# EAGLE library part CONNECTOR_PI_40_PIN (library APU_ENGR480_UPS_EAGLE_Library)
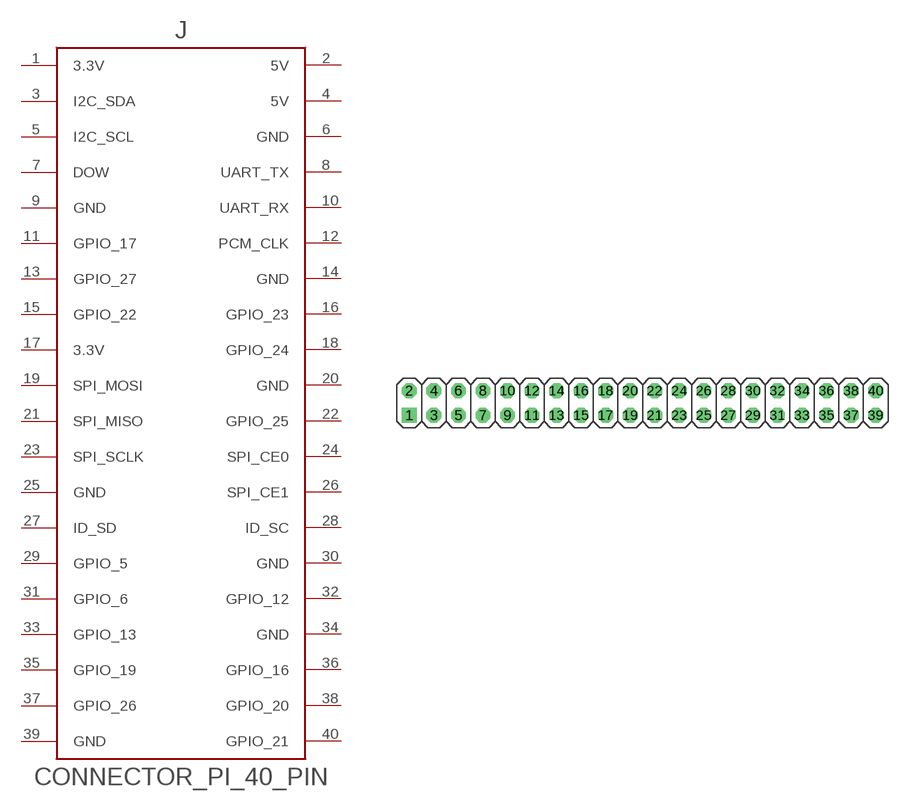
[diagram p3: symbol with the pads of 2X20; footprint 2X20]

Designator prefix J

## CONNECTOR_PI_40_PIN  [2X20]
1  3.3V
2  5V
3  I2C_SDA
4  5V
5  I2C_SCL
6  GND
7  DOW
8  UART_TX
9  GND
10  UART_RX
11  GPIO_17
12  PCM_CLK
13  GPIO_27
14  GND
15  GPIO_22
16  GPIO_23
17  3.3V
18  GPIO_24
19  SPI_MOSI
20  GND
21  SPI_MISO
22  GPIO_25
23  SPI_SCLK
24  SPI_CE0
25  GND
26  SPI_CE1
27  ID_SD
28  ID_SC
29  GPIO_5
30  GND
31  GPIO_6
32  GPIO_12
33  GPIO_13
34  GND
35  GPIO_19
36  GPIO_16
37  GPIO_26
38  GPIO_20
39  GND
40  GPIO_21

## Footprint 2X20 (pad centres in mm)
PIN HEADER
drill 1.016 square: 1 -24.13,-1.27
drill 1.016 octagon: 2 -24.13,1.27; 3 -21.59,-1.27; 4 -21.59,1.27; 5 -19.05,-1.27; 6 -19.05,1.27; 7 -16.51,-1.27; 8 -16.51,1.27; 9 -13.97,-1.27; 10 -13.97,1.27; 11 -11.43,-1.27; 12 -11.43,1.27; 13 -8.89,-1.27; 14 -8.89,1.27; 15 -6.35,-1.27; 16 -6.35,1.27; 17 -3.81,-1.27; 18 -3.81,1.27; 19 -1.27,-1.27; 20 -1.27,1.27; 21 1.27,-1.27; 22 1.27,1.27; 23 3.81,-1.27; 24 3.81,1.27; 25 6.35,-1.27; 26 6.35,1.27; 27 8.89,-1.27; 28 8.89,1.27; 29 11.43,-1.27; 30 11.43,1.27; 31 13.97,-1.27; 32 13.97,1.27; 33 16.51,-1.27; 34 16.51,1.27; 35 19.05,-1.27; 36 19.05,1.27; 37 21.59,-1.27; 38 21.59,1.27; 39 24.13,-1.27; 40 24.13,1.27